# Altium schematic symbol library FD2010.SchLib: 1 symbol
Pins are listed as number, name and electrical type; pins without a type are passive.

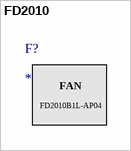
[diagram p0: symbol FD2010]

## FD2010
designator F?
text: FAN; FD2010B1L-AP04